# Altium schematic symbol library Tese_SymbolLib.SchLib: 36 symbols
Pins are listed as number, name and electrical type; pins without a type are passive.

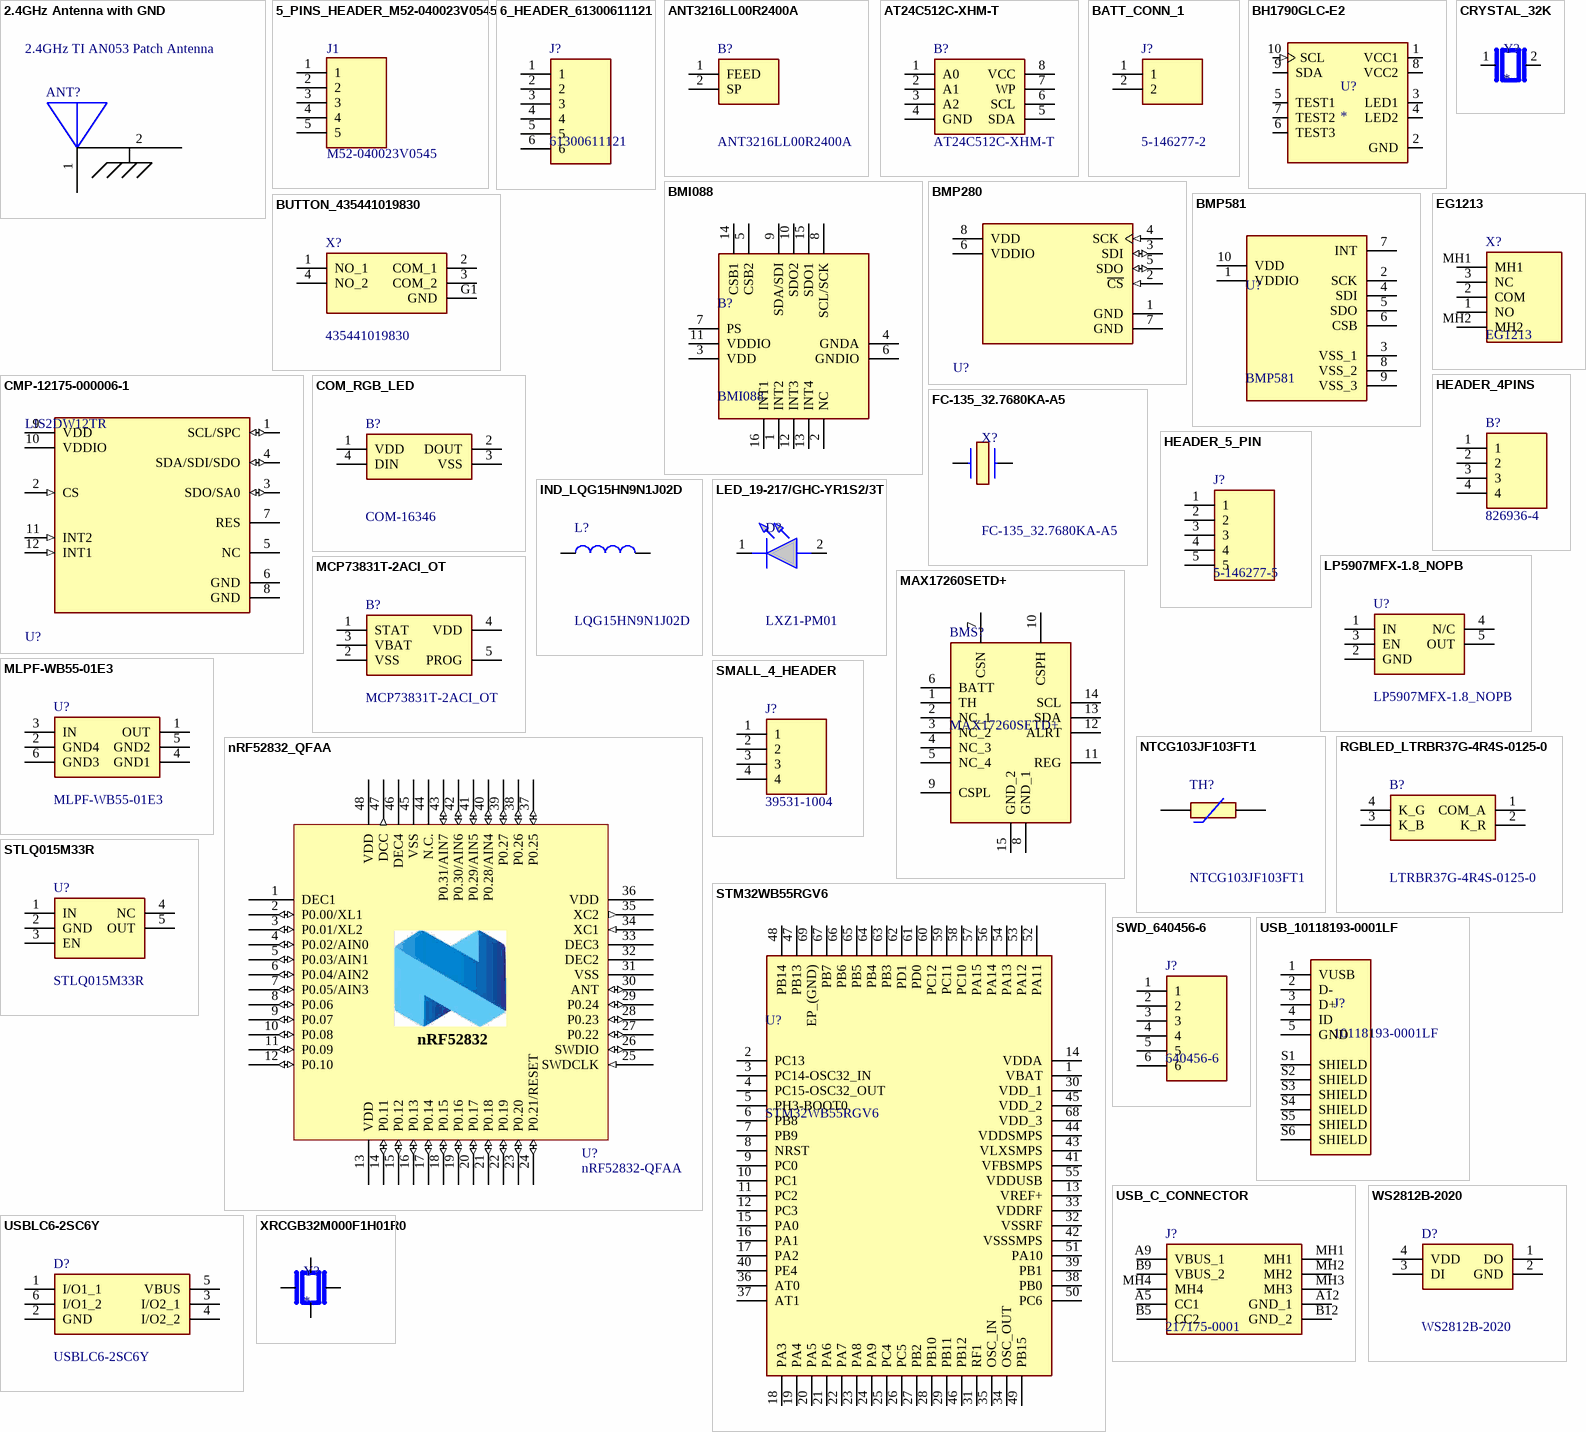
[diagram p0: symbols 2.4GHz Antenna with GND to XRCGB32M000F1H01R0]

## 2.4GHz Antenna with GND
designator ANT?, comment 2.4GHz TI AN053 Patch Antenna  (no BOM)
From Application Note AN053
footprint 2.4GHz TI AN053 Patch Antenna Right Original
pins: 1 ANT, 2

## 5_PINS_HEADER_M52-040023V0545
designator J1, comment M52-040023V0545
Header 5way SIL PCT MALE Pin HARWIN Archer M52 Series, 1.27mm Pitch 5 Way 1 Row Straight PCB Header, Through Hole, Solder Termination; Geometry.Height: 6.5mm; Manufacturer_Name: Harwin; Manufacturer_Part_Number: M52-040023V0545; Mouser Part Number: 855-M52-040023V0545; Mouser Price/Stock: https://www.mouser.co.uk/ProductDetail/Harwin/M52-040023V0545?qs=wuXwK9wHm9ubXDya5zRNiw%3D%3D; Arrow Part Number: *; Arrow Price/Stock: *; Datasheet Link: https://cdn.harwin.com/pdfs/M52-040023VXX45.pdf
footprint 5_PINS_HEADER_HDRV5W46P0X127_1X5_635X250X650P
pins: 1, 2, 3, 4, 5

## 6_HEADER_61300611121
designator J?, comment 61300611121
WR-PHD 2.54mm Pin Header THT Straight 6p Wurth Elektronik WR-PHD Series, Series Number 6130, 2.54mm Pitch 6 Way 1 Row Straight Pin Header, Cable Mount; Geometry.Height: 8.69mm; Manufacturer_Name: Wurth Elektronik; Manufacturer_Part_Number: 61300611121; Mouser Part Number: 710-61300611121; Mouser Price/Stock: https://www.mouser.co.uk/ProductDetail/Wurth-Elektronik/61300611121?qs=t4813l51qx%2FRpdf0Kp1HlQ%3D%3D; Arrow Part Number: *; Arrow Price/Stock: *; Datasheet Link: https://componentsearchengine.com/Datasheets/2/61300611121.pdf
footprint HDRV6W64P0X254_1X6_1524X254X869P
footprint 6_HEADER_HDRV6W64P0X254_1X6_1524X254X869P
pins: 1, 2, 3, 4, 5, 6

## ANT3216LL00R2400A
designator B?
Antennas 1W 2.4-2.5GHz ANTENNA; Manufacturer_Name: Pulse Electronics; Geometry.Height: 1.35mm; Mouser Part Number: 603-ANT3216LL00R2400; Mouser Price/Stock: https://www.mouser.co.uk/ProductDetail/Pulse-Electronics/ANT3216LL00R2400A?qs=VAB4DzKv5wVywAIgVVebaA%3D%3D; Manufacturer_Part_Number: ANT3216LL00R2400A; Datasheet Link: *; JLCPCB Link: https://jlcpcb.com/partdetail/Yageo-ANT3216LL00R2400A/C293767; Available at JLCPCB?: Yes
footprint ANT3216LL00R2400A
pins: 1 FEED, 2 SP

## AT24C512C-XHM-T
designator B?
EEPROM SERIAL EEPROM 512K (64K X 8) 2WIRE 1.7V; Manufacturer_Name: Microchip; Geometry.Height: 1.2mm; Mouser Part Number: 556-AT24C512C-XHM-T; Mouser Price/Stock: https://www.mouser.co.uk/ProductDetail/Microchip-Technology/AT24C512C-XHM-T?qs=rNaVQffb%252BteaIrq7vigEzw%3D%3D; Manufacturer_Part_Number: AT24C512C-XHM-T; Datasheet Link: https://ww1.microchip.com/downloads/en/DeviceDoc/20006161B.pdf; Available at JLCPCB?: YES; JLCPCB Linkl: https://jlcpcb.com/partdetail/MicrochipTech-AT24C512C_XHMT/C111546
footprint SOP65P640X120-8N
pins: 1 A0, 2 A1, 3 A2, 4 GND, 5 SDA, 6 SCL, 7 WP, 8 VCC

## BATT_CONN_1
designator J?, comment 5-146277-2
TE Connectivity AMPMODU Mod II, 2.54mm Pitch, 2 Way, 1 Row, Straight Pin Header, Through Hole; Geometry.Height: 8.23mm; Manufacturer_Name: TE Connectivity; Manufacturer_Part_Number: 5-146277-2; Mouser Part Number: 571-5-146277-2; Mouser Price/Stock: https://www.mouser.co.uk/ProductDetail/TE-Connectivity/5-146277-2?qs=bwpFY26eRVdSYoepUea0uA%3D%3D; Arrow Part Number: 5-146277-2; Arrow Price/Stock: https://www.arrow.com/en/products/5-146277-2/te-connectivity?region=nac; Datasheet Link: https://www.te.com/commerce/DocumentDelivery/DDEController?Action=srchrtrv&DocNm=146277&DocType=Customer+Drawing&DocLang=English
footprint HEADER_2PINS
pins: 1, 2

## BH1790GLC-E2
designator U?
Oximeter/Heart Rate Sensor IÂ²C Output; MP: BH1790GLC-E2; MF: Rohm; Package: LGA-10 Rohm; Mouser-Purchase-URL: https://snapeda.com/shop?store=Mouser&id=2761766; Price: None; Availability: Warning; Value: *; SnapEDA_Link: https://www.snapeda.com/parts/BH1790GLC-E2/Rohm/view-part/2761766/?ref=snap; JLCPCB Link: None; Available at JLCPCB?: No
footprint PQFN70P280X280X100-10N
footprint PQFN70P280X280X100-10N (BH1790GLC)
footprint PQFN70P280X280X100-10N (BH1790GLC)
footprint PQFN70P280X280X100-10N (BH1790GLC-E2 PPG)
pins: 1 VCC1 (power), 2 GND (power), 3 LED1, 4 LED2, 5 TEST1, 6 TEST3, 7 TEST2, 8 VCC2 (power), 9 SDA (io), 10 SCL (in)

## BMI088
designator B?
Inertial Measurement Unit Digital Output 2.5V/3.3V Automotive; Manufacturer_Name: BOSCH; Geometry.Height: 1.45mm; Manufacturer_Part_Number: BMI088; Mouser Part Number: 262-BMI088; Mouser Price/Stock: https://www.mouser.co.uk/ProductDetail/Bosch-Sensortec/BMI088?qs=f9yNj16SXrIMFspTV6RB6Q%3D%3D; Arrow Part Number: BMI088; Arrow Price/Stock: https://www.arrow.com/en/products/bmi088/bosch?region=europe; Datasheet Link: https://datasheet.datasheetarchive.com/originals/distributors/Datasheets_SAMA/994c3bf88e91a9e9fead6a819d348e4d.pdf; Available at JLCPCB?: Yes; JLCPCB Link: https://jlcpcb.com/partdetail/BoschSensortec-BMI088/C194919
footprint BMI088
pins: 1 INT2, 2 NC, 3 VDD, 4 GNDA, 5 CSB2, 6 GNDIO, 7 PS, 8 SCL/SCK, 9 SDA/SDI, 10 SDO2, 11 VDDIO, 12 INT3, 13 INT4, 14 CSB1, 15 SDO1, 16 INT1

## BMP280
designator U?  (value not drawn)
BMP280 Absolute Barometric Pressure Sensor; Available at JLCPCB?: YES; JLCPCB Link: https://jlcpcb.com/partdetail/BoschSensortec-BMP280/C83291
footprint BMP280 (PRESSURE SENSOR)
pins: 1 GND (power), 2 ~{CS} (in), 3 SDI (io), 4 SCK (in), 5 SDO (io), 6 VDDIO (power), 7 GND (power), 8 VDD (power)

## BMP581
designator U?
Pressure Sensor 4.35PSI ~ 18.13PSI (30kPa ~ 125kPa) Absolute 10-WFLGA; Manufacturer_Name: BOSCH; Geometry.Height: 0.8mm; Mouser Part Number: 262-BMP581; Mouser Price/Stock: https://www.mouser.co.uk/ProductDetail/Bosch-Sensortec/BMP581?qs=Li%252BoUPsLEntPL9tlFmcgXg%3D%3D; Manufacturer_Part_Number: BMP581; Datasheet Link: https://www.bosch-sensortec.com/media/boschsensortec/downloads/datasheets/bst-bmp581-ds004.pdf
footprint BMP581
pins: 1 VDDIO, 2 SCK, 3 VSS_1, 4 SDI, 5 SDO, 6 CSB, 7 INT, 8 VSS_2, 9 VSS_3, 10 VDD

## BUTTON_435441019830
designator X?, comment 435441019830
Tactile Switches WS-TASV Tact Switch Washable 4.1x2.8x1.9 mm SMT; Manufacturer_Name: Wurth Elektronik; Geometry.Height: 1.9mm; Mouser Part Number: 710-435441019830; Mouser Price/Stock: https://www.mouser.co.uk/ProductDetail/Wurth-Elektronik/435441019830?qs=ufv2HEpFn%252BQgnhl%2FsZ0Vfw%3D%3D; Manufacturer_Part_Number: 435441019830; Datasheet Link: https://www.we-online.com/catalog/datasheet/435441019830.pdf
footprint 435441019830
footprint button_435441019830
footprint BUTTON_435441019830
pins: 1 NO_1, 2 COM_1, 3 COM_2, 4 NO_2, G1 GND

## CMP-12175-000006-1
designator U?, comment LIS2DW12TR
ACCEL 2-16G I2C/SPI 12LGA; Manufacturer: STMicroelectronics; Min Supply Voltage: 1.62V; Operating Supply Current: 0.38-90uA; Sensor Output: I2C,SPI; Accel Resolution: 14bits; Max Supply Voltage: 3.6V; Accel Range: 2/4/8/16g; Height: 0.7mm; Device Class L1: Sensors; RoHS: TRUE; Temperature Range Low: -40°C; Category: IC; Mouser Description: Accelerometer Triple ±2g/±4g/±8g/±16g 1.62V to 3.6V 0.244mg/digit/0.488mg/digit/0.976mg/digit/1.952mg/digit 12-Pin LG...; Digikey Description: ACCEL 2-16G I2C/SPI 12LGA; ComponentLink2URL: https://www.st.com/resource/en/datasheet/lis2dw12.pdf; Automotive: No; Manufacturer Part Number: LIS2DW12TR; Lead Free: Yes; Footprint Url: https://www.st.com/content/ccc/resource/technical/document/technical_note/73/17/9c/16/dd/96/4a/01/CD00134799.pdf/files/CD00134799.pdf/jcr:content/translations/en.CD00134799.pdf; Temperature: -40°C to +85°C; Device Class L3: Accelerometers; Package: LGA12-DM00170568; Temperature Range High: +85°C; Device Class L2: Motion Sensors; Octopart: https://octopart.com/lis2dw12tr-stmicroelectronics-77080925; ComponentLink2Description: Datasheet; JLCPCB Link: https://jlcpcb.com/partdetail/Stmicroelectronics-LIS2DW12TR/C189624; JLCPCB Part#: C189624
footprint FP-LGA12-DM00170568-MFG (IMU LIS2DW12TR)
pins: 1 SCL/SPC (io), 2 CS (in), 3 SDO/SA0 (io), 4 SDA/SDI/SDO (io), 5 NC, 6 GND (power), 7 RES, 8 GND (power), 9 VDD (power), 10 VDDIO (power), 11 INT2 (in), 12 INT1 (in)

## COM_RGB_LED
designator B?, comment COM-16346
LED Lighting Bars and Strips SMD LED - RGB WS2812B (Strip of 50); Manufacturer_Name: SparkFun; Geometry.Height: 2.25mm; Mouser Part Number: 474-COM-16346; Mouser Price/Stock: https://www.mouser.co.uk/ProductDetail/SparkFun/COM-16346?qs=OlC7AqGiEDnspdV1Dchx7w%3D%3D; Manufacturer Part Number: COM-16346; Datasheet Link: http://cdn.sparkfun.com/datasheets/BreakoutBoards/WS2812B.pdf
footprint COM_RGB_LED
pins: 1 VDD, 2 DOUT, 3 VSS, 4 DIN

## CRYSTAL_32K
designator Y?
Tuning Fork Crystal 32.768kHz in 1.2 x 2.0mm package; MF: Micro Crystal; MP: CM8V-T1A-32.768KHZ-9PF-20PPM-TA-QC; SnapEDA_Link: https://www.snapeda.com/parts/CM8V-T1A-32.768KHZ-9PF-20PPM-TA-QC/Micro+Crystal/view-part/?ref=snap; Package: SMD-2 Micro Crystal; Value: *; Check_prices: https://www.snapeda.com/parts/CM8V-T1A-32.768KHZ-9PF-20PPM-TA-QC/Micro+Crystal/view-part/?ref=eda
footprint CRYSTAL_XTAL_CM8V-T1A-32.768KHZ-9PF-20PPM-TA-QC
pins: 1, 2

## EG1213
designator X?
Slide Switches SPDT SLIDE PC MNT; Manufacturer_Name: E-Switch; Geometry.Height: 5mm; Mouser Part Number: 612-EG1213; Mouser Price/Stock: https://www.mouser.co.uk/ProductDetail/E-Switch/EG1213?qs=xDsBkp9LkofPeirZgUQnKA%3D%3D; Manufacturer_Part_Number: EG1213; Datasheet Link: *; JLCPCB Link: https://jlcpcb.com/partdetail/eswitch-EG1213/C273393; Available at JLCPCB?: Yes
footprint EG1213
pins: 1 NO (power), 2 COM, 3 NC (power), MH1, MH2

## FC-135_32.7680KA-A5
designator X?
Crystal 0.032768MHz +/-20ppm (Tol) 12.5pF FUND 70000Ohm 2-Pin CSMD T/R; Manufacturer_Name: Epson Timing; Manufacturer_Part_Number: FC-135 32.7680KA-A5; Geometry.Height: 0.9mm; Mouser Part Number: 732-532.7680KA-A5; Mouser Price/Stock: https://www.mouser.co.uk/ProductDetail/Epson-Timing/FC-135-32.7680KA-A5?qs=f9yNj16SXrJ7J65t%252BHv0JQ%3D%3D; Datasheet Link: https://support.epson.biz/td/api/doc_check.php?dl=brief_FC-135&lang=en; JLCPCB Part #: C32346
footprint crystal_FC135327680KAA5
pins: 1, 2

## HEADER_4PINS
designator B?, comment 826936-4
2.54mm,Header,pin,vert,SR,4W,Sn; Manufacturer_Name: TE Connectivity; Geometry.Height: 8.8mm; Manufacturer_Part_Number: 826936-4; Mouser Part Number: 571-826936-4; Mouser Price/Stock: https://www.mouser.co.uk/ProductDetail/TE-Connectivity/826936-4?qs=xF5SkmKSM75pb1XQrSeq6Q%3D%3D; Arrow Part Number: 826936-4; Arrow Price/Stock: https://www.arrow.com/en/products/826936-4/te-connectivity?region=nac; Datasheet Link: https://www.arrow.com/en/products/826936-4/te-connectivity
footprint HEADER_4PINS
pins: 1, 2, 3, 4

## HEADER_5_PIN
designator J?, comment 5-146277-5
Body Features: Primary Product Color Black; Manufacturer_Name: TE Connectivity; Geometry.Height: 10.45mm; Mouser Part Number: 571-5-146277-5; Mouser Price/Stock: https://www.mouser.co.uk/ProductDetail/TE-Connectivity/5-146277-5?qs=bwpFY26eRVcmPlysZPsVnQ%3D%3D; Manufacturer_Part_Number: 5-146277-5; Datasheet Link: https://www.arrow.com/en/products/5-146277-5/te-connectivity
footprint HEADER_5_PIN
pins: 1, 2, 3, 4, 5

## IND_LQG15HN9N1J02D
designator L?, comment LQG15HN9N1J02D
LQG15HN_02 Series Inductor 9.1nH +/-5% 0402 (1005); Manufacturer_Name: Murata Electronics; Geometry.Height: 0.55mm; Manufacturer_Part_Number: LQG15HN9N1J02D; Mouser Part Number: 81-LQG15HN9N1J02D; Mouser Price/Stock: https://www.mouser.co.uk/ProductDetail/Murata-Electronics/LQG15HN9N1J02D?qs=HfwHrtDjQO%2Fys7ysIyqj1Q%3D%3D; Arrow Part Number: *; Arrow Price/Stock: *; Datasheet Link: https://psearch.en.murata.com/inductor/product/LQG15HN9N1J02%23.html; Available at JLCPCB?: Yes; JLCPCB Link: https://jlcpcb.com/partdetail/MurataElectronics-LQW15DN100M00D/C910650
footprint LQG15WH0N7B02D
footprint IND_LQG15WH0N7B02D (INDUCTOR 0402)
pins: 1, 2

## LED_19-217/GHC-YR1S2/3T
designator D?, comment LXZ1-PM01
High Power LEDs - Single Color Green; Manufacturer_Name: Everlight; Manufacturer_Part_Number: 19-217/GHC-YR1S2/3T; Geometry.Height: 0.96mm; Mouser Part Number: 638-19217GHCYR1S23T; Mouser Price/Stock: https://pt.mouser.com/ProductDetail/Everlight/19-217-GHC-YR1S2-3T?qs=8cKuZ6Ok2lZjmFTUzVFjDg%3D%3D; Datasheet Link: https://pt.mouser.com/datasheet/2/143/19-217-GHC-YR1S2-3T-1663276.pdf; JLCPCB Link: https://jlcpcb.com/partdetail/EverlightElec-19_217_GHC_YR1S23T/C72043; Available at JLCPCB?: Yes
footprint LXZ1PH02
footprint RES_AT0603T03ECATD (19-217/GHC-YR1S2/3T LED SMD Top View Uni-Color Brilliant Green 518nm 0603 Pkg ø7T/R 3k")
footprint LEDC1608X70N
pins: 1 K, 2 A

## LP5907MFX-1.8_NOPB
designator U?
250-mA ultra-low-noise low-IQ low-dropout (LDO) linear regulator; Manufacturer_Name: Texas Instruments; Manufacturer_Part_Number: LP5907MFX-1.8/NOPB; Geometry.Height: 1.45mm; Mouser Part Number: 595-LP5907MFX-1.8NPB; Mouser Price/Stock: https://www.mouser.co.uk/ProductDetail/Texas-Instruments/LP5907MFX-1.8-NOPB?qs=biyDIajrTn5jh5ArkSZeqw%3D%3D; Datasheet Link: http://www.ti.com/lit/gpn/lp5907; Available at JLCPCB?: Yes; JLCPCB Link: https://jlcpcb.com/partdetail/TexasInstruments-LP5907MFX_1_8NOPB/C92498
footprint SOT95P280X145-5N
pins: 1 IN, 2 GND, 3 EN, 4 N/C, 5 OUT

## MAX17260SETD+
designator BMS?
Battery Management 5.1 A 1-Cell Fuel Gauge with ModelGauge m5 EZ and Optional High-SideCurrent Sensing; Manufacturer_Name: Analog Devices; Geometry.Height: 0.8mm; Mouser Part Number: 700-MAX17260SETD+; Mouser Price/Stock: https://www.mouser.co.uk/ProductDetail/Analog-Devices-Maxim-Integrated/MAX17260SETD%2b?qs=%252BEew9%252B0nqrAfepKB1Fe0%252Bw%3D%3D; Manufacturer_Part_Number: MAX17260SETD+; Datasheet Link: https://www.maximintegrated.com/en/ds/MAX17260.pdf; Available at JLCPCB?: Yes; JLCPCB Link: https://jlcpcb.com/partdetail/327096-MAX17260SETD/C350946
footprint SON40P300X300X80-15N
pins: 1 TH, 2 NC_1, 3 NC_2, 4 NC_3, 5 NC_4, 6 BATT, 7 CSN, 8 GND_1, 9 CSPL, 10 CSPH, 11 REG, 12 ALRT, 13 SDA, 14 SCL, 15 GND_2

## MCP73831T-2ACI_OT
designator B?
Li-Ion Charge Controller 4.2V SOT23-5; Manufacturer_Name: Microchip; Manufacturer_Part_Number: MCP73831T-2ACI/OT; Geometry.Height: 1.45mm; Mouser Part Number: 579-MCP73831T-2ACIOT; Mouser Price/Stock: https://www.mouser.co.uk/ProductDetail/Microchip-Technology/MCP73831T-2ACI-OT?qs=yUQqVecv4qvbBQBGbHx0Mw%3D%3D; Arrow Part Number: MCP73831T-2ACI/OT; Arrow Price/Stock: https://www.arrow.com/en/products/mcp73831t-2aciot/microchip-technology?region=nac; Datasheet Link: http://ww1.microchip.com/downloads/en/DeviceDoc/20001984g.pdf; Available at JLCPCB?: Yes; JLCPCB Link: https://jlcpcb.com/partdetail/MicrochipTech-MCP73831T_2ACIOT/C424093
footprint SOT95P270X145-5N
pins: 1 STAT, 2 VSS, 3 VBAT, 4 VDD, 5 PROG

## MLPF-WB55-01E3
designator U?
RF Wireless Misc 2.4 GHz Low Pass Filter matched to STM32WB55; Manufacturer_Name: STMicroelectronics; Geometry.Height: 0.7mm; Mouser Part Number: 511-MLPF-WB55-01E3; Mouser Price/Stock: https://www.mouser.co.uk/ProductDetail/STMicroelectronics/MLPF-WB55-01E3?qs=vLWxofP3U2xV%2FkxL9PmCDA%3D%3D; Manufacturer_Part_Number: MLPF-WB55-01E3; Datasheet Link: https://www.st.com/resource/en/datasheet/mlpf-wb55-01e3.pdf; JLCPCB Link: https://jlcpcb.com/partdetail/Stmicroelectronics-MLPF_WB5501E3/C2651048; Available at JLCPCB?: Yes
footprint MLPFWB5501E3
pins: 1 OUT, 2 GND4, 3 IN, 4 GND1, 5 GND2, 6 GND3

## nRF52832_QFAA
designator U?, comment nRF52832-QFAA
Multi-protocol Bluetooth Low Energy, ANT and 2.4GHz proprietary system-on-chip; Manufacturer: Nordic Semiconductor; Artikkelnr Noca: N.A.; Part Number: nRF52832-QFAA; Manufacturer Part Number: nRF52832-QFAA; Datasheet: *; LatestRevisionDate: 2014-11-26; Pin Count: 48; Publisher: Nordic Semiconductor; Published: 2014-11-26; Value: nRF52832-QFAA; Note: *; Supplier: Nordic Semiconductor; Supplier part number: *; 2nd source Supplier: *; 2nd source part number: *; Footprint Doc: QFN-48; Artikkelnr Simpro: N.A.; JLCPCB Link: https://jlcpcb.com/partdetail/NordicSemicon-NRF52832_QFAAR/C77540; JLCPCB Part#: C77540
footprint QFN40P600X600X90-48N
footprint QFN40P600X600X90-48N (NRF52832)
pins: 1 DEC1 (power), 2 P0.00/XL1 (io), 3 P0.01/XL2 (io), 4 P0.02/AIN0 (io), 5 P0.03/AIN1 (io), 6 P0.04/AIN2 (io), 7 P0.05/AIN3 (io), 8 P0.06 (io), 9 P0.07 (io), 10 P0.08 (io), 11 P0.09 (io), 12 P0.10 (io), 13 VDD (power), 14 P0.11 (io), 15 P0.12 (io), 16 P0.13 (io), 17 P0.14 (io), 18 P0.15 (io), 19 P0.16 (io), 20 P0.17 (io), 21 P0.18 (io), 22 P0.19 (io), 23 P0.20 (io), 24 P0.21/RESET (io), 25 SWDCLK (in), 26 SWDIO (io), 27 P0.22 (io), 28 P0.23 (io), 29 P0.24 (io), 30 ANT (io), 31 VSS (power), 32 DEC2 (power), 33 DEC3 (power), 34 XC1 (in), 35 XC2 (out), 36 VDD (power), 37 P0.25 (io), 38 P0.26 (io), 39 P0.27 (io), 40 P0.28/AIN4 (io), 41 P0.29/AIN5 (io), 42 P0.30/AIN6 (io), 43 P0.31/AIN7 (io), 44 N.C. (power), 45 VSS (power), 46 DEC4 (power), 47 DCC (out), 48 VDD (power), 49 GND (power) hidden to GND
text: nRF52832

## NTCG103JF103FT1
designator TH?
Chip NTC Thermistors (Sensor), Resistance (at 25?C)=10k?, Resistance Tolerance (at 25?C)=?1%; Manufacturer_Name: TDK; Geometry.Height: 0.55mm; Mouser Part Number: 810-NTCG103JF103FT1; Mouser Price/Stock: https://www.mouser.co.uk/ProductDetail/TDK/NTCG103JF103FT1?qs=f0gCvUGw%252BIwLiM8IfZktlg%3D%3D; Manufacturer_Part_Number: NTCG103JF103FT1; Datasheet Link: https://product.tdk.com/system/files/dam/doc/product/sensor/ntc/chip-ntc-thermistor/catalog/tpd_commercial_ntc-thermistor_ntcg_en.pdf; JLCPCB Link: https://jlcpcb.com/partdetail/Tdk-NTCG103JF103FT1/C209959; Available at JLCPCB?: Yes
footprint THRMC1005X55N
pins: 1, 2

## RGBLED_LTRBR37G-4R4S-0125-0
designator B?, comment LTRBR37G-4R4S-0125-0
Standard LEDs - SMD LTRBR37G; Manufacturer_Name: ams OSRAM; Geometry.Height: 0.35mm; Mouser Part Number: 720-LTRBR37GA6714; Mouser Price/Stock: https://www.mouser.co.uk/ProductDetail/ams-OSRAM/LTRBR37G-4R4S-0125-0?qs=vvQtp7zwQdPO5tl4HQ7ftA%3D%3D; Manufacturer_Part_Number: LTRBR37G-4R4S-0125-0; Datasheet Link: https://dammedia.osram.info/media/resource/hires/osram-dam-24639129/LTRB%20R37G_EN.pdf
footprint RGBLED_LTRBR37G4R4S01250
pins: 1 COM_A, 2 K_R, 3 K_B, 4 K_G

## SMALL_4_HEADER
designator J?, comment 39531-1004
Pluggable Terminal Blocks 5.08MM EURO HEADER VERT BLK 4CKT; Manufacturer_Name: Molex; Geometry.Height: 12.4mm; Manufacturer_Part_Number: 39531-1004; Mouser Part Number: 538-39531-1004; Mouser Price/Stock: https://www.mouser.co.uk/ProductDetail/Molex/39531-1004?qs=cJvWYcaovXw3CDO3HV0Puw%3D%3D; Arrow Part Number: *; Arrow Price/Stock: *; Datasheet Link: https://www.molex.com/pdm_docs/sd/395311004_sd.pdf
footprint SHDR4W100P0X508_1X4_2232X830X1240P
footprint SMALL_4_HEADER
pins: 1, 2, 3, 4

## STLQ015M33R
designator U?
STMicroelectronics STLQ015M33R, Single Linear Voltage Regulator, 150mA 3.3 V, +/-20mV, 5-Pin SOT-23; Geometry.Height: 1.45mm; Mouser Part Number: 511-STLQ015M33R; Mouser Price/Stock: https://www.mouser.co.uk/ProductDetail/STMicroelectronics/STLQ015M33R?qs=k5OWtXsTJaojAOdVSaZ6wQ%3D%3D; Manufacturer_Name: STMicroelectronics; Manufacturer_Part_Number: STLQ015M33R; Datasheet Link: https://rs.componentsearchengine.com/Datasheets/2/STLQ015M33R.pdf; JLCPCB Link: https://jlcpcb.com/partdetail/Stmicroelectronics-STLQ015M33R/C136154; Available at JLCPCB?: Yes
footprint SOT95P280X145-5N
pins: 1 IN, 2 GND, 3 EN, 4 NC, 5 OUT

## STM32WB55RGV6
designator U?
ARM Microcontrollers - MCU Ultra-low-power dual core Arm Cortex-M4 MCU 64 MHz, Cortex-M0 32MHz with 1 Mbyte Flash, BLE, 802.15.4, USB, LCD, AES-256; Manufacturer_Name: STMicroelectronics; Geometry.Height: 1mm; Manufacturer_Part_Number: STM32WB55RGV6; Mouser Part Number: 511-STM32WB55RGV6; Mouser Price/Stock: https://www.mouser.co.uk/ProductDetail/STMicroelectronics/STM32WB55RGV6?qs=lYGu3FyN48cg9Kq%252BQIugSQ%3D%3D; Arrow Part Number: STM32WB55RGV6; Arrow Price/Stock: https://www.arrow.com/en/products/stm32wb55rgv6/stmicroelectronics?region=nac; Datasheet Link: https://www.st.com/resource/en/datasheet/stm32wb55rg.pdf; JLCPCB Link: https://jlcpcb.com/partdetail/Stmicroelectronics-STM32WB55RGV6/C401505; Available at JLCPCB?: Yes
footprint QFN40P800X800X100-69N-D
footprint QFN40P800 (STM32WB55RGV6)
pins: 1 VBAT, 2 PC13, 3 PC14-OSC32_IN, 4 PC15-OSC32_OUT, 5 PH3-BOOT0, 6 PB8, 7 PB9, 8 NRST, 9 PC0, 10 PC1, 11 PC2, 12 PC3, 13 VREF+, 14 VDDA, 15 PA0, 16 PA1, 17 PA2, 18 PA3, 19 PA4, 20 PA5, 21 PA6, 22 PA7, 23 PA8, 24 PA9, 25 PC4, 26 PC5, 27 PB2, 28 PB10, 29 PB11, 30 VDD_1, 31 RF1, 32 VSSRF, 33 VDDRF, 34 OSC_OUT, 35 OSC_IN, 36 AT0, 37 AT1, 38 PB0, 39 PB1, 40 PE4, 41 VFBSMPS, 42 VSSSMPS, 43 VLXSMPS, 44 VDDSMPS, 45 VDD_2, 46 PB12, 47 PB13, 48 PB14, 49 PB15, 50 PC6, 51 PA10, 52 PA11, 53 PA12, 54 PA13, 55 VDDUSB, 56 PA14, 57 PA15, 58 PC10, 59 PC11, 60 PC12, 61 PD0, 62 PD1, 63 PB3, 64 PB4, 65 PB5, 66 PB6, 67 PB7, 68 VDD_3, 69 EP_(GND)

## SWD_640456-6
designator J?, comment 640456-6
Headers & Wire Housings FRICTION LCK HDR 6P Straight Post tin; Manufacturer_Name: TE Connectivity; Geometry.Height: 10.033mm; Manufacturer_Part_Number: 640456-6; Mouser Part Number: 571-6404566; Mouser Price/Stock: https://www.mouser.co.uk/ProductDetail/TE-Connectivity-AMP/640456-6?qs=%2F35zJ5USjomb%252BGgX%252BBnrrQ%3D%3D; Arrow Part Number: 640456-6; Arrow Price/Stock: https://www.arrow.com/en/products/640456-6/te-connectivity?region=nac; Datasheet Link: https://datasheet.datasheetarchive.com/originals/distributors/Datasheets_SAMA/53b6d75d7446c4158b7609f45acef8cd.pdf
footprint SHDR6W66P0X254_1X6_1524X572X1003P
footprint SHDR6W66P0X254_1X6_1524X572X1003P (SWD_640456-6)
footprint button_435441019830
pins: 1, 2, 3, 4, 5, 6

## USB_10118193-0001LF
designator J?, comment 10118193-0001LF
Micro USB 2.0, Input Output Connectors, B TYPE RECEPTACLE; MF: Amphenol ICC; Value: *; MP: 10118193-0001LF; Package: None; Check_prices: https://www.snapeda.com/parts/10118193-0001LF/Amphenol+FCI/view-part/?ref=eda; Purchase-URL: https://pricing.snapeda.com/search/part/10118193-0001LF/?ref=eda; Price: None; Availability: In Stock; SnapEDA_Link: https://www.snapeda.com/parts/10118193-0001LF/Amphenol+FCI/view-part/?ref=snap
footprint AMPHENOL_10118193-0001LF
footprint USB_AMPHENOL_10118193-0001LF
pins: 1 VUSB, 2 D-, 3 D+, 4 ID, 5 GND, S1 SHIELD, S2 SHIELD, S3 SHIELD, S4 SHIELD, S5 SHIELD, S6 SHIELD

## USB_C_CONNECTOR
designator J?, comment 217175-0001
Connector USB Type C Female 6Positions 0.5mm Right Angle SMT Embossed T/R - Tape and Reel; Manufacturer_Name: Molex; Geometry.Height: 3.46mm; Manufacturer_Part_Number: 217175-0001; Mouser Part Number: 538-217175-0001; Mouser Price/Stock: https://www.mouser.co.uk/ProductDetail/Molex/217175-0001?qs=DRkmTr78QARWJMiqNnldSg%3D%3D; Arrow Part Number: *; Arrow Price/Stock: *; Datasheet Link: https://www.molex.com/pdm_docs/sd/2171750001_sd.pdf
footprint USB_C_CONNECTOR
pins: A5 CC1, A9 VBUS_1, A12 GND_1, B5 CC2, B9 VBUS_2, B12 GND_2, MH1, MH2, MH3, MH4

## USBLC6-2SC6Y
designator D?
Low Cap. ESD Protection Auto SOT-23-6 STMicroelectronics USBLC6-2SC6Y, Dual Uni-Directional TVS Diode Array, 6-Pin SOT-23; Geometry.Height: 1.45mm; Mouser Part Number: 511-USBLC6-2SC6Y; Mouser Price/Stock: https://www.mouser.co.uk/ProductDetail/STMicroelectronics/USBLC6-2SC6Y?qs=gNDSiZmRJS%2FOgDexvXkdow%3D%3D; Manufacturer_Name: STMicroelectronics; Manufacturer_Part_Number: USBLC6-2SC6Y; Datasheet Link: https://componentsearchengine.com/Datasheets/1/USBLC6-2SC6Y.pdf; JLCPCB Link: https://jlcpcb.com/partdetail/TechPublic-USBLC62SC6Y/C5310974; Available at JLCPCB?: Yes
footprint SOT95P280X145-6N
pins: 1 I/O1_1, 2 GND, 3 I/O2_1, 4 I/O2_2, 5 VBUS, 6 I/O1_2

## WS2812B-2020
designator D?
LED; SMD; 2020; RGB; 2x2x0.84mm; 3.75.3V; Lens: transparent; 2kHz; Manufacturer_Name: Worldsemi; Geometry.Height: 0.84mm; Manufacturer_Part_Number: WS2812B-2020; JLCPCB Part Number: C965555; JLCPCB Price/Stock: https://jlcpcb.com/partdetail/Worldsemi-WS2812B2020/C965555; Arrow Part Number: *; Arrow Price/Stock: *; Datasheet Link: https://www.alldatasheet.com/datasheet-pdf/pdf/1134522/WORLDSEMI/WS2812B-2020.html; Available at JLCPCB?: Yes
footprint WS2812B2020
pins: 1 DO, 2 GND, 3 DI, 4 VDD

## XRCGB32M000F1H01R0
designator Y?
32 MHz Â±10ppm Crystal 8pF 60 Ohms 4-SMD, No Lead; MP: XRCGB32M000F1H01R0; MF: Murata Electronics; Package: SMD-4 Murata; Availability: In Stock; Value: *; Purchase-URL: https://pricing.snapeda.com/search/part/XRCGB32M000F1H01R0/?ref=eda; Check_prices: https://www.snapeda.com/parts/XRCGB32M000F1H01R0/Murata/view-part/?ref=eda; Price: None; SnapEDA_Link: https://www.snapeda.com/parts/XRCGB32M000F1H01R0/Murata/view-part/?ref=snap; Available at JLCPCB?: Yes; JLCPCB Link: https://jlcpcb.com/partdetail/985230-XRCGB32M000F1H01R0/C914155
footprint OSC_XRCGB32M000F1H01R0
footprint OSC_XRCGB32M000F1H01R0 (CRYSTAL 32MHZ)
pins: 1, 2 (power), 3, 4 (power)